# EAGLE library part CON_PROG-6 (library con_prog)
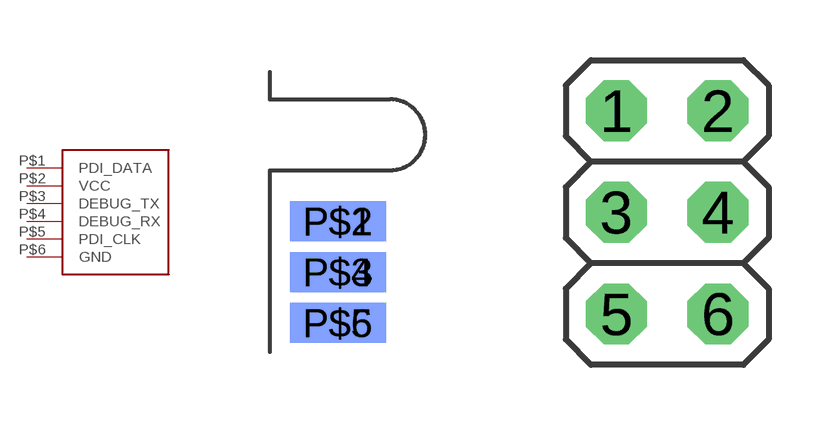
[diagram p0: symbol with the pads of SMD-6; footprints SMD-6, PINH-6]

Designator prefix -

## CON_PROG-6SMD  [SMD-6]
P$1  PDI_DATA
P$2  VCC
P$3  DEBUG_TX
P$4  DEBUG_RX
P$5  PDI_CLK
P$6  GND

## CON_PROG-6PINH  [PINH-6]
1  PDI_DATA
2  VCC
3  DEBUG_RX
4  DEBUG_TX
5  PDI_CLK
6  GND

## CON_PROG-6PINH6-SMD  [PINH-6-SMD]
Pads as for PINH-6

## CON_PROG-6CORN  [SMD-6-CORNER]
Pads as for SMD-6

## CON_PROG-6PINH-6/90  [2X03/90]
Pads as for PINH-6

## Footprint SMD-6 (pad centres in mm)
smd 2.4 x 1: P$1 1.7,-0.03; P$3 1.7,-1.3; P$5 1.7,-2.57
smd 2.4 x 1 bottom: P$2 1.7,-0.03; P$4 1.7,-1.3; P$6 1.7,-2.57

## Footprint PINH-6 (pad centres in mm)
drill 1.016 octagon: 1 -1.27,2.54; 2 1.27,2.54; 3 -1.27,0; 4 1.27,0; 5 -1.27,-2.54; 6 1.27,-2.54

## Footprint PINH-6-SMD (pad centres in mm)
smd 2.286 x 1.778: 1 -3.493,2.54; 3 -3.493,0; 5 -3.493,-2.54
smd 2.286 x 1.778 bottom: 2 -3.493,2.54; 4 -3.493,0; 6 -3.493,-2.54

## Footprint SMD-6-CORNER (pad centres in mm)
smd 2.4 x 1: P$1 1.702,-1.27; P$3 1.702,-2.54; P$5 1.702,-3.81
smd 2.4 x 1 bottom: P$2 1.702,-1.27; P$4 1.702,-2.54; P$6 1.702,-3.81

## Footprint 2X03/90 (pad centres in mm)
PIN HEADER
drill 1.016 octagon: 1 -2.54,-6.35; 2 -2.54,-3.81; 3 0,-6.35; 4 0,-3.81; 5 2.54,-6.35; 6 2.54,-3.81